# Altium schematic symbol library TPS74901.SchLib: 1 symbol
Pins are listed as number, name and electrical type; pins without a type are passive.

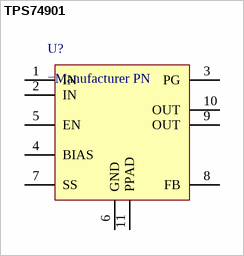
[diagram p0: symbol TPS74901]

## TPS74901
designator U?
10-pin version Linear Regulator Pos Adj 3A
pins: 1 IN, 2 IN, 3 PG, 4 BIAS, 5 EN, 6 GND, 7 SS, 8 FB, 9 OUT, 10 OUT, 11 PPAD